# Altium footprint library HE280PCB.PcbLib: 18 footprints (part 2 of 2)
Each footprint in its own frame and in the unit in brackets; x right, y up, seen from the top. Pads: shape width x height; smd on the part's side, far side on the other; paste and mask are expansions set on the pad; w line width, h text height; cw(c..) or ccw(c..) is an arc to the next point about the centre after c.
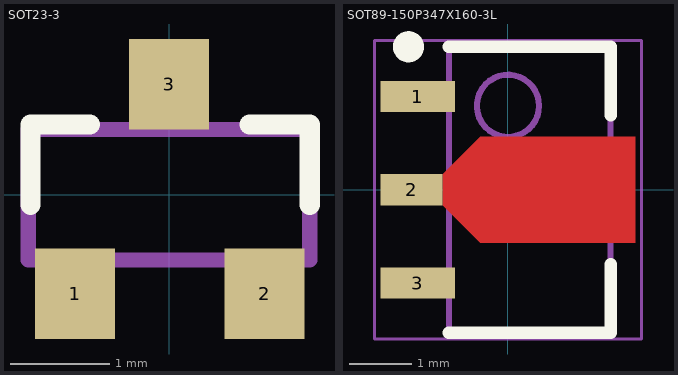
[diagram p1: the footprints below, top view; thin cyan lines are the x and y axes]

## SOT23-3 [mil]
height 23.62
pads (3):
  rect 32x36 smd: 1(-37.4,-39.37) 2(38,-39.37) 3(0,44)
Top Overlay:
  lines w8: -55.12,-3.94 -55.12,28 -31.5,28 ; 32,28 56,28 56,-3.94
Mechanical 8:
  lines w6: -56,-26 -56,26 56,26 56,-26 -56,-26
3D body: height 44.09, standoff 0, extent -59,-29 59,29
3D body: height 15.75, standoff 0, extent -10,27.5 10,52.5
3D body: height 15.75, standoff 0, extent -47.5,-45 -22.5,-25
3D body: height 15.75, standoff 0, extent 27.5,-45 52.5,-25

## SOT89-150P347X160-3L [mm] "SOT89, 3-Leads, Body 4.50x2.48mm, Pitch 1.50mm, Lead Span 3.5mm, IPC High Density"
height 1.6
pads (3):
  rect 1.2x0.5 smd: 1(-1.45,1.5) 3(-1.45,-1.5)
  rect 1x0.5 smd: 2(-1.55,0)
Top Layer:
  region: -1.05,0.25 -0.45,0.85 2.05,0.85 2.05,-0.85 -0.45,-0.85 -1.05,-0.25
Top Overlay:
  circle w0.25: c-1.6,2.3 r0.125
  lines w0.2: -0.95,-2.3 1.65,-2.3 1.65,-1.2 ; -0.95,2.3 1.65,2.3 1.65,1.2
Mechanical 13:
  circle w0.1: c0,1.35 r0.5
  lines w0.1: -0.95,-2.3 1.65,-2.3 1.65,2.3 -0.95,2.3 -0.95,-2.3
Mechanical 15:
  lines w0.05: -2.15,-2.4 2.15,-2.4 2.15,2.4 -2.15,2.4 -2.15,-2.4
  lines w0.1: -0.15,0 0.85,0 ; 0.35,-0.5 0.35,0.5
3D body: height 1.6, standoff 0, extent -0.95,-2.3 1.65,2.3